# Altium footprint library DFN65P100X35-3N.PcbLib: 1 footprints
Each footprint in its own frame and in the unit in brackets; x right, y up, seen from the top. Pads: shape width x height; smd on the part's side, far side on the other; paste and mask are expansions set on the pad; w line width, h text height; cw(c..) or ccw(c..) is an arc to the next point about the centre after c.
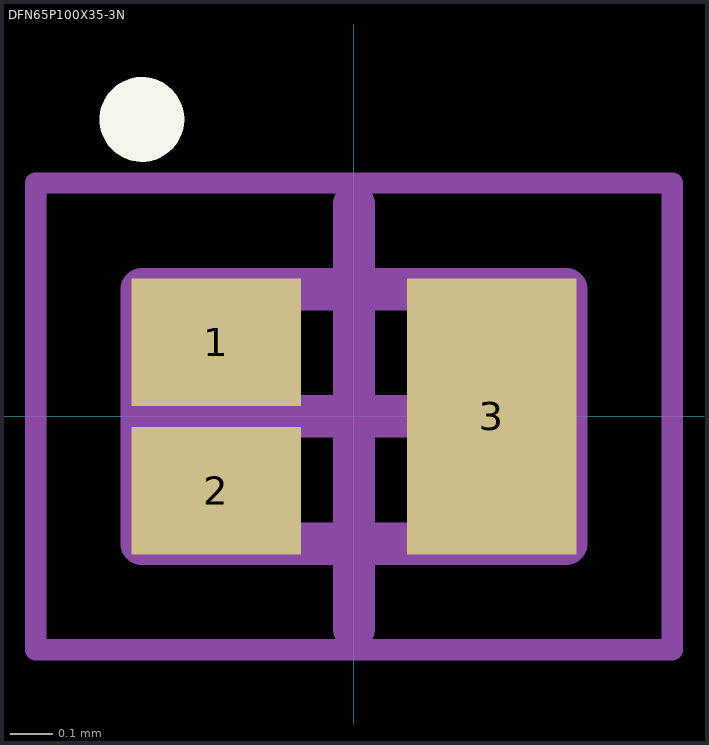
[diagram p0: the footprint, top view; thin cyan lines are the x and y axes]

## DFN65P100X35-3N [mm] "DFN, 3-Leads, Body 0.60x1.00mm, Pitch 0.65mm, IPC Medium Density"
height 0.35
pads (3):
  rect 0.4x0.3 smd: 1(-0.325,0.175) 2(-0.325,-0.175)
  rect 0.4x0.65 smd: 3(0.325,0)
Top Overlay:
  circle w0.1: c-0.5,0.7 r0.05
Mechanical 13:
  lines w0.1: -0.5,-0.3 -0.5,0.3 0.5,0.3 0.5,-0.3 -0.5,-0.3
Mechanical 15:
  lines w0.05: -0.75,-0.55 -0.75,0.55 0.75,0.55 0.75,-0.55 -0.75,-0.55
  lines w0.1: -0.5,0 0.5,0 ; 0,-0.5 0,0.5
3D body "DFN65P100X35-3N.step": height 0.35, standoff 0, extent -0.5,-0.3 0.5,0.3